# EAGLE library part SN74HC00-* (library DAC)
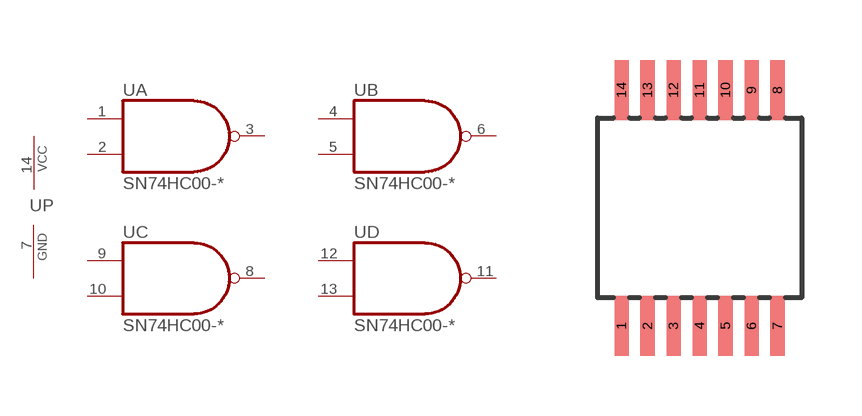
[diagram p14: symbol with the pads of TSSOP14; footprint TSSOP14]

Designator prefix U; gates A=NAND B=NAND C=NAND D=NAND P=PWR

## SN74HC00-PW  [TSSOP14]
1  A:I0  in
2  A:I1  in
3  A:O  out
4  B:I0  in
5  B:I1  in
6  B:O  out
7  P:GND  pwr
8  C:O  out
9  C:I0  in
10  C:I1  in
11  D:O  out
12  D:I0  in
13  D:I1  in
14  P:VCC  pwr

## Footprint TSSOP14 (pad centres in mm)
smd 0.35 x 1.5: 1 -1.95,-2.95; 2 -1.3,-2.95; 3 -0.65,-2.95; 4 0,-2.95; 5 0.65,-2.95; 6 1.3,-2.95; 7 1.95,-2.95; 8 1.95,2.95; 9 1.3,2.95; 10 0.65,2.95; 11 0,2.95; 12 -0.65,2.95; 13 -1.3,2.95; 14 -1.95,2.95